# Altium footprint library PSM_REV_C.PcbLib: 21 footprints (part 1 of 2)
Each footprint in its own frame and in the unit in brackets; x right, y up, seen from the top. Pads: shape width x height; smd on the part's side, far side on the other; paste and mask are expansions set on the pad; w line width, h text height; cw(c..) or ccw(c..) is an arc to the next point about the centre after c.
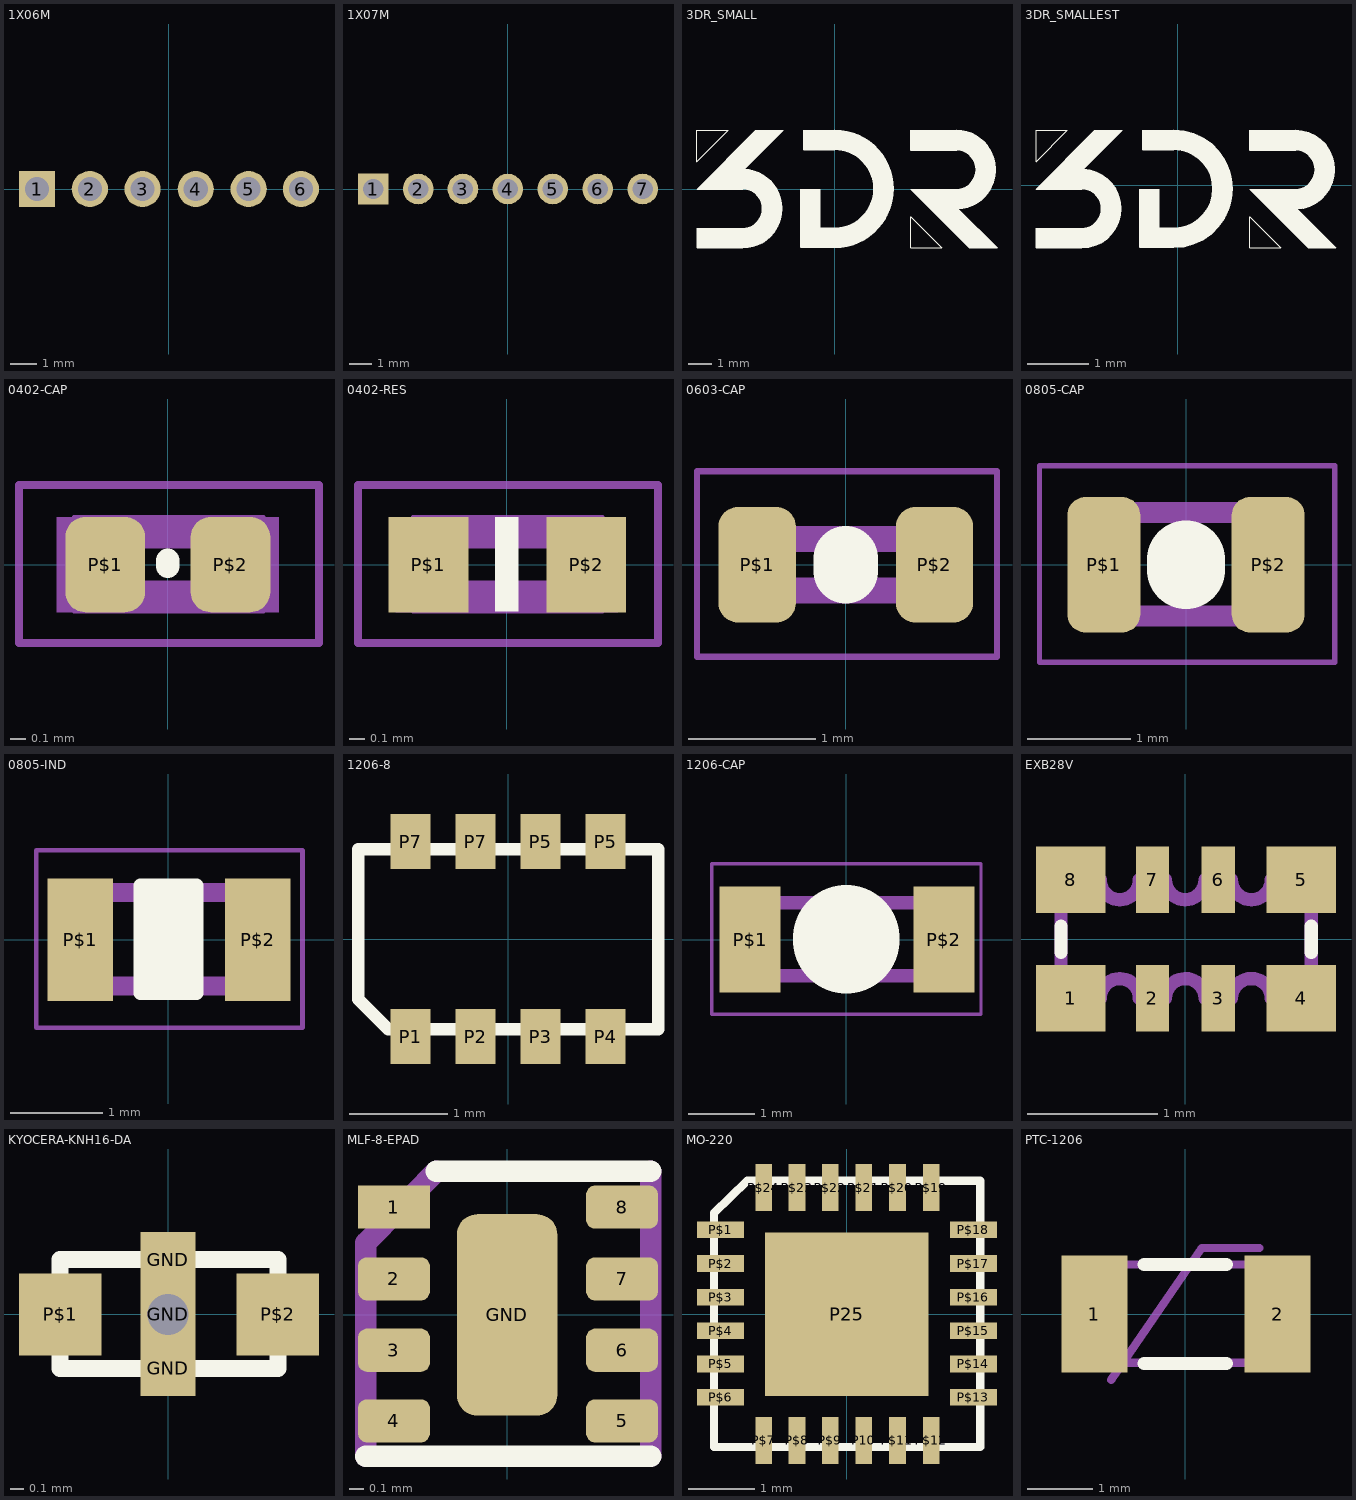
[diagram p0: the footprints below, top view; thin cyan lines are the x and y axes]

## 1X06M [mil]
pads (6):
  rect 54x54 hole 36: 1(-196.85,0)
  round 54 hole 36: 2(-118.11,0) 3(-39.37,0) 4(40,0) 5(119,0) 6(197,0)
Mechanical 16:
  region: 108.58,9.58 108.58,-9.42 128.42,-9.42 128.42,9.58
  region: 187.58,9.58 187.58,-9.42 207.42,-9.42 207.42,9.58
  region: -49.29,9.92 -49.29,-9.76 -29.45,-9.76 -29.45,9.92
  region: 30.08,10.08 30.08,-9.92 49.92,-9.92 49.92,10.08
  rectangle: -206.69,-9.84 -187.01,10
  rectangle: -127.95,-9.84 -108.27,10

## 1X07M [mil] "1X07M"
pads (7):
  rect 54x54 hole 36: 1(-236.22,0)
  round 54 hole 36: 2(-157.48,0) 3(-78.74,0) 4(0,0) 5(79,0) 6(158,0) 7(237,0)
Mechanical 16:
  rectangle: -167.32,-9.84 -147.64,10
  rectangle: -246.06,-9.84 -226.38,10
  region: -9.84,10 -9.84,-9.84 10,-9.84 10,10
  region: -88.66,9.92 -88.66,-9.76 -68.82,-9.76 -68.82,9.92
  region: 148.08,10.08 148.08,-9.92 167.92,-9.92 167.92,10.08
  region: 69.08,10.08 69.08,-9.92 88.92,-9.92 88.92,10.08
  region: 227.08,10.08 227.08,-9.92 246.92,-9.92 246.92,10.08
  rectangle: -167.32,-9.84 -147.64,10
  rectangle: -246.06,-9.84 -226.38,10
  region: -9.84,10 -9.84,-9.84 10,-9.84 10,10
  region: -88.66,9.92 -88.66,-9.76 -68.82,-9.76 -68.82,9.92
  region: 148.08,10.08 148.08,-9.92 167.92,-9.92 167.92,10.08
  region: 69.08,10.08 69.08,-9.92 88.92,-9.92 88.92,10.08
  region: 227.08,10.08 227.08,-9.92 246.92,-9.92 246.92,10.08

## 3DR_SMALL [mil]
Top Overlay:
  drawing of 45 lines, arcs and shapes, not listed
Top Solder:
  region: -235.2,47.62 -235.2,100.65 -182.17,100.65
  region: 182.63,-99.72 129.6,-99.72 129.6,-46.69

## 3DR_SMALLEST [mil]
Top Overlay:
  drawing of 45 lines, arcs and shapes, not listed
Top Solder:
  region: 65.71,-39.75 45.92,-39.75 45.92,-19.96
  region: -90.23,15.24 -90.23,35.03 -70.44,35.03

## 0402-CAP [mil]
pads (2):
  rrect50% 20x24 smd mask+0: P$1(-15.75,0) P$2(15.75,0)
Top Overlay:
  lines w6: 0,-0.39 0,1
Mechanical 16:
  rectangle: -28.04,-12 -16.04,12
  rectangle: 15.95,-12 27.95,12
  lines w1: -23.62,-11.81 24,-11.81 24,12 -23.62,12 -23.62,-11.81
  lines w2: -37.4,-19.68 38,-19.68 38,20 -37.4,20 -37.4,-19.68
  lines w8: -20,-8 20,-8 ; -20,8 20,8
3D body: height 19.68, standoff 0, extent -19.68,-9.84 19.68,9.84

## 0402-RES [mil] "0402-RES"
pads (2):
  rect 20x24 smd: P$1(-19.68,0) P$2(20,0)
Top Overlay:
  rectangle: -3,-11.81 3,12
Mechanical 16:
  rectangle: 16,-12 28,12
  rectangle: -28,-12 -16,12
  lines w1: -23.62,-11.81 -23.62,12 24,12 24,-11.81 -23.62,-11.81
  lines w2: -37.4,-19.68 -37.4,20 38,20 38,-19.68 -37.4,-19.68
  lines w8: -20,-8 20,-8 ; -20,8 20,8
3D body: height 19.68, standoff 0, extent -19.68,-9.84 19.68,9.84

## 0603-CAP [mil] "0603-CAP"
pads (2):
  rrect50% 24x36 smd mask+0: P$1(-27.56,0) P$2(27.56,0)
Top Overlay:
  lines w20: 0,-2 0,2
Mechanical 16:
  rectangle: -28,-12 -16,12
  rectangle: 16,-12 28,12
  lines w2: -46.26,-28.54 47,-28.54 47,29 -46.26,29 -46.26,-28.54
  lines w8: -20,-8 20,-8 ; -20,8 20,8
3D body: height 34.25, standoff -0.39, extent -31.5,-15.95 31.5,15.94

## 0805-CAP [mil]
pads (2):
  rrect50% 28x52 smd mask+0: P$1(-31.5,0) P$2(31.5,0)
Top Overlay:
  lines w30: 0,-2 0,2
Mechanical 16:
  rectangle: 24,-23.67 40,24
  rectangle: -39.37,-23.67 -23.62,24
  lines w2: -56.1,-37.4 -56.1,38 57,38 57,-37.4 -56.1,-37.4
  lines w8: -23.62,-19.68 24,-19.68 ; -23.62,20 24,20
3D body: height 30.79, standoff 0, extent -39.37,-24.61 39.37,24.61

## 0805-IND [mil]
pads (2):
  rect 28x52 smd: P$1(-37.4,0) P$2(38,0)
Top Overlay:
  rectangle: -11.76,-22.59 12,23
  lines w6: -11.76,-22.59 -11.76,23 12,23 12,-22.59 -11.76,-22.59
Mechanical 16:
  rectangle: -39.37,-23.67 -23.62,24
  rectangle: 24,-23.67 40,24
  lines w2: -56.1,-37.4 57,-37.4 57,38 -56.1,38 -56.1,-37.4
  lines w8: -23.62,-19.68 24,-19.68 ; -23.62,20 24,20

## 1206-8 [mil]
pads (8):
  rect 16x22 smd: P1(-39,-39) P2(-13,-39) P3(13,-39) P4(39,-39) P5(13,39) P5(39,39) P7(-39,39) P7(-13,39)
Top Overlay:
  lines w5: -60,-24 -48,-36 60,-36 60,36 -60,36 -60,-24

## 1206-CAP [mil]
pads (2):
  rect 36x63 smd: P$1(-57.09,0) P$2(58,0)
Top Overlay:
  lines w63: 0,-0.39 0,1
Mechanical 16:
  rectangle: -68.9,-25.59 -45.27,26
  rectangle: 46,-25.59 69,26
  lines w2: -79.72,-44.29 80,-44.29 80,45 -79.72,45 -79.72,-44.29
  lines w8: -45.28,-21.59 46,-21.59 ; -45.28,22 46,22

## EXB28V [mil] "EXB28V"
pads (8):
  rect 21x20 smd: 1(-34.45,-17.72) 4(35,-17.72) 5(35,18) 8(-34.45,18)
  rect 10x20 smd: 2(-9.84,-17.72) 3(10,-17.72) 6(10,18) 7(-9.84,18)
Top Overlay:
  lines w4: -37.4,-3.94 -37.4,4 ; 38,-3.94 38,4
Mechanical 16:
  lines w4: -37.4,-17.72 -25.59,-17.72 cw(c-19.68,-17.72) -19.68,-11.81 cw(c-19.68,-17.72) -13.78,-17.72 -5.91,-17.72 cw(c0,-17.72) 0,-11.81 cw(c0.05,-17.76) 6,-17.72 14,-17.72 cw(c19.95,-17.76) 20,-11.81 cw(c20.05,-17.76) 26,-17.72 38,-17.72 38,18 26,18 cw(c20,18) 20,12 cw(c20,18) 14,18 6,18 cw(c0,18) 0,12 cw(c0.05,17.95) -5.91,18 -13.78,18 cw(c-19.73,17.95) -19.68,12 cw(c-19.64,17.95) -25.59,18 -37.4,18 -37.4,-17.72
3D body: height 20.1, standoff 0, extent 0,-20 20,20
3D body: height 20.1, standoff 0, extent 20,-20 40,20
3D body: height 20.1, standoff 0, extent -20,-20 0,20
3D body: height 20.1, standoff 0, extent -40,-20 -20,20

## KYOCERA-KNH16-DA [mil] "KYOCERA-KNH16-DA"
pads (5):
  rect 16x16 smd: GND(0,-15.75) GND(0,16)
  rect 16x16 hole 12: GND(0,0)
  rect 24x24 smd: P$1(-31.5,0) P$2(32,0)
Top Overlay:
  lines w5: -31.5,-15.75 -31.5,16 32,16 32,-15.75 -31.5,-15.75
3D body: height 13.78, standoff 0, extent -19.68,-9.84 19.68,9.84

## MLF-8-EPAD [mil] "MLF-8-EPAD"
pads (9):
  rect 20x12 smd: 1(-31.5,30)
  rrect40% 20x12 smd: 2(-31.5,10) 3(-31.5,-9.84) 4(-31.5,-29.53) 5(32,-29.53) 6(32,-9.84) 7(32,10) 8(32,30)
  rrect40% 28x56 smd: GND(0,0)
Top Overlay:
  lines w6: -39.37,-39.37 40,-39.37 ; -19.68,40 40,40
Mechanical 16:
  lines w6: -39.37,-39.37 -39.37,20 -19.68,40 ; 40,-39.37 40,40
3D body: height 33.46, standoff 0, extent -39.76,-39.37 39.76,39.37

## MO-220 [mil] "MO-220"
pads (25):
  rect 10x28 smd: P10(10,-74.8) P$7(-49.21,-74.8) P$8(-29.53,-74.8) P$9(-9.84,-74.8) P$11(30,-74.8) P$12(50,-74.8) P$19(50,75) P$20(30,75) P$21(10,75) P$22(-9.84,75) P$23(-29.53,75) P$24(-49.21,75)
  rect 97x97 smd paste-11.81: P25(0,0)
  rect 28x10 smd: P$1(-74.8,50) P$2(-74.8,30) P$3(-74.8,10) P$4(-74.8,-9.84) P$5(-74.8,-29.53) P$6(-74.8,-49.21) P$13(75,-49.21) P$14(75,-29.53) P$15(75,-9.84) P$16(75,10) P$17(75,30) P$18(75,50)
Top Overlay:
  lines w5: -78.74,-78.74 79,-78.74 79,79 -59.06,79 -78.74,60 -78.74,-78.74
Top Paste:
  rectangle: -19.68,-19.68 20,20
3D body: height 35.43, standoff 0, extent -78.82,-78.82 78.82,78.82

## PTC-1206 [mil] "PTC-1206"
pads (2):
  rect 40x71 smd: 1(-55.12,0) 2(56,0)
Top Overlay:
  lines w8: -25,-30 25,-30 ; -25,30 25,30
Mechanical 16:
  lines w5: -45,-40 10,40 45,40 ; -59.06,-29.53 60,-29.53 60,30 -59.06,30 -59.06,-29.53
3D body: height 19.68, standoff 0, extent -60,-30 65,30